# Altium schematic symbol library LM324.SchLib: 1 symbol
Pins are listed as number, name and electrical type; pins without a type are passive.

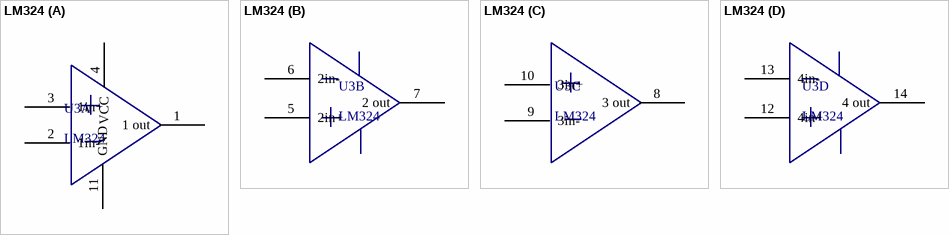
[diagram p0: symbol LM324]

## LM324
designator U3
part A pins: 1 1 out, 2 1in-, 3 1in+, 4 VCC, 11 GND
part B pins: 5 2in+, 6 2in-, 7 2 out
part C pins: 8 3 out, 9 3in-, 10 3in+
part D pins: 12 4in+, 13 4in-, 14 4 out